# Altium footprint library Inductor.PcbLib: 4 footprints
Each footprint in its own frame and in the unit in brackets; x right, y up, seen from the top. Pads: shape width x height; smd on the part's side, far side on the other; paste and mask are expansions set on the pad; w line width, h text height; cw(c..) or ccw(c..) is an arc to the next point about the centre after c.
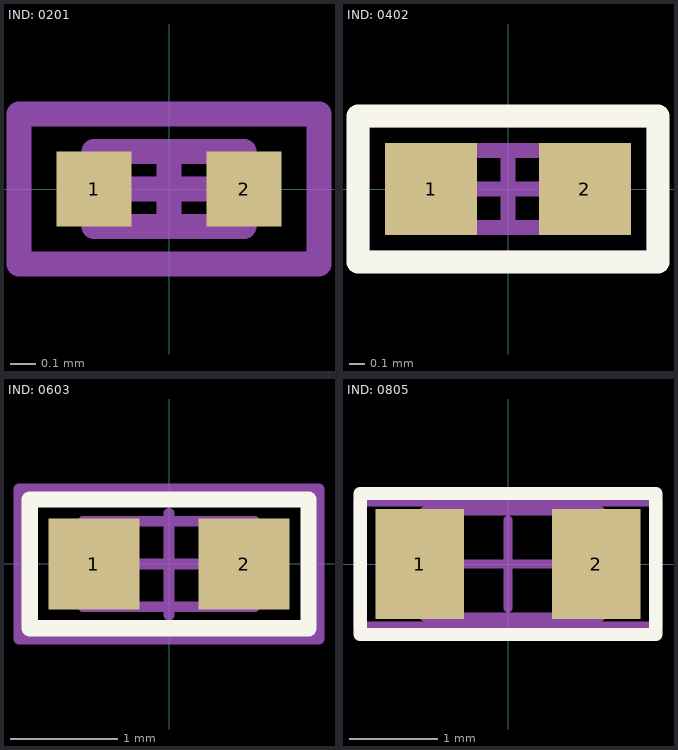
[diagram p0: the footprints below, top view; thin cyan lines are the x and y axes]

## IND: 0201 [mm]
height 0.3
pads (2):
  rect 0.3x0.3 smd: 1(-0.3,0) 2(0.3,0)
Mechanical 1:
  lines w0.1: -0.3,-0.15 0.3,-0.15 0.3,0.15 -0.3,0.15 -0.3,-0.15
Mechanical 15:
  lines w0.1: -0.15,0 0.15,0 ; 0,-0.15 0,0.15 ; -0.6,-0.3 0.6,-0.3 0.6,0.3 -0.6,0.3 -0.6,-0.3
3D body "INDC0603.step": height 0.3, standoff 0, extent -0.3,-0.15 0.3,0.15

## IND: 0402 [mm]
height 0.5
pads (2):
  rect 0.6x0.6 smd: 1(-0.5,0) 2(0.5,0)
Top Overlay:
  lines w0.15: -0.975,-0.475 0.975,-0.475 0.975,0.475 -0.975,0.475 -0.975,-0.475
Mechanical 1:
  lines w0.1: -0.5,-0.25 0.5,-0.25 0.5,0.25 -0.5,0.25 -0.5,-0.25
Mechanical 15:
  lines w0.1: -0.25,0 0.25,0 ; 0,-0.25 0,0.25 ; -0.95,-0.45 0.95,-0.45 0.95,0.45 -0.95,0.45 -0.95,-0.45
3D body "Chip2PinSM127P600-8N.step": height 0.5, standoff 0, extent -0.5,-0.25 0.5,0.25

## IND: 0603 [mm]
height 0.8
pads (2):
  rect 0.85x0.85 smd: 1(-0.7,0) 2(0.7,0)
Top Overlay:
  lines w0.15: -1.3,-0.6 1.3,-0.6 1.3,0.6 -1.3,0.6 -1.3,-0.6
Mechanical 1:
  lines w0.1: -0.8,-0.4 0.8,-0.4 0.8,0.4 -0.8,0.4 -0.8,-0.4
Mechanical 15:
  lines w0.1: -0.475,0 0.475,0 ; 0,-0.475 0,0.475 ; -1.4,-0.7 -1.4,0.7 1.4,0.7 1.4,-0.7 -1.4,-0.7
3D body "Chip2PinSM127P600-8N.step": height 0.8, standoff 0, extent -0.8,-0.4 0.8,0.4

## IND: 0805 [mm]
height 1
pads (2):
  rect 1x1.25 smd: 1(-1,0) 2(1,0)
Top Overlay:
  lines w0.15: -1.675,-0.8 -1.675,0.8 1.675,0.8 1.675,-0.8 -1.675,-0.8
Mechanical 1:
  lines w0.1: -0.949,-0.6 -0.949,0.6 1.05,0.6 1.05,-0.6 -0.949,-0.6
Mechanical 15:
  lines w0.1: -0.5,0 0.5,0 ; 0,-0.5 0,0.5 ; -1.7,-0.7 1.7,-0.7 1.7,0.7 -1.7,0.7 -1.7,-0.7
3D body "User Library-FB_2012-1.STEP": height 0.85, standoff 0, extent -1,-0.625 1,0.625